# EAGLE library part ADUM6404 (library ADUM6404)
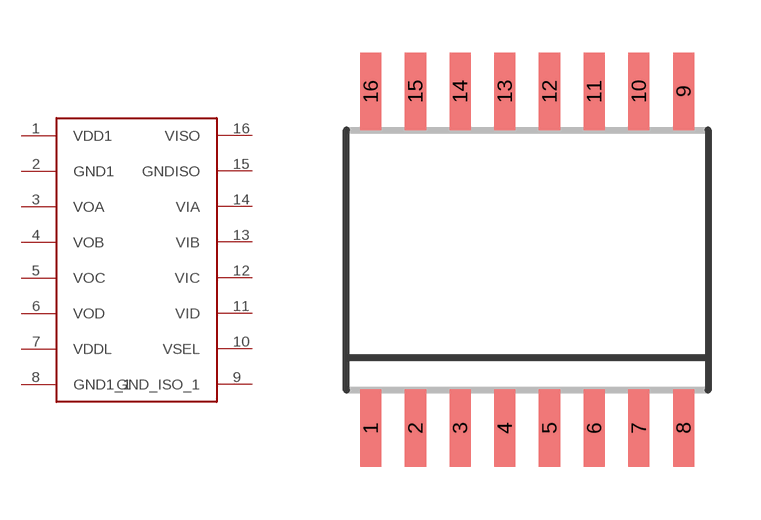
[diagram p0: symbol with the pads of SOIC16R; footprint SOIC16R]

Designator prefix -

## ADUM6404  [SOIC16R]
1  VDD1
2  GND1
3  VOA
4  VOB
5  VOC
6  VOD
7  VDDL
8  GND1_1
9  GND_ISO_1
10  VSEL
11  VID
12  VIC
13  VIB
14  VIA
15  GNDISO
16  VISO

## Footprint SOIC16R (pad centres in mm)
16-Lead SOIC (R) Package Source: http://www.analog.com/static/imported-files/data_sheets/AD745.pdf
smd 0.6 x 2.2: 1 -4.445,-4.775; 2 -3.175,-4.775; 3 -1.905,-4.775; 4 -0.635,-4.775; 5 0.635,-4.775; 6 1.905,-4.775; 7 3.175,-4.775; 8 4.445,-4.775; 9 4.445,4.8; 10 3.175,4.8; 11 1.905,4.8; 12 0.635,4.8; 13 -0.635,4.8; 14 -1.905,4.8; 15 -3.175,4.8; 16 -4.445,4.8